# Altium footprint library SN74AUC125RGYR.PcbLib: 1 footprints
Each footprint in its own frame and in the unit in brackets; x right, y up, seen from the top. Pads: shape width x height; smd on the part's side, far side on the other; paste and mask are expansions set on the pad; w line width, h text height; cw(c..) or ccw(c..) is an arc to the next point about the centre after c.
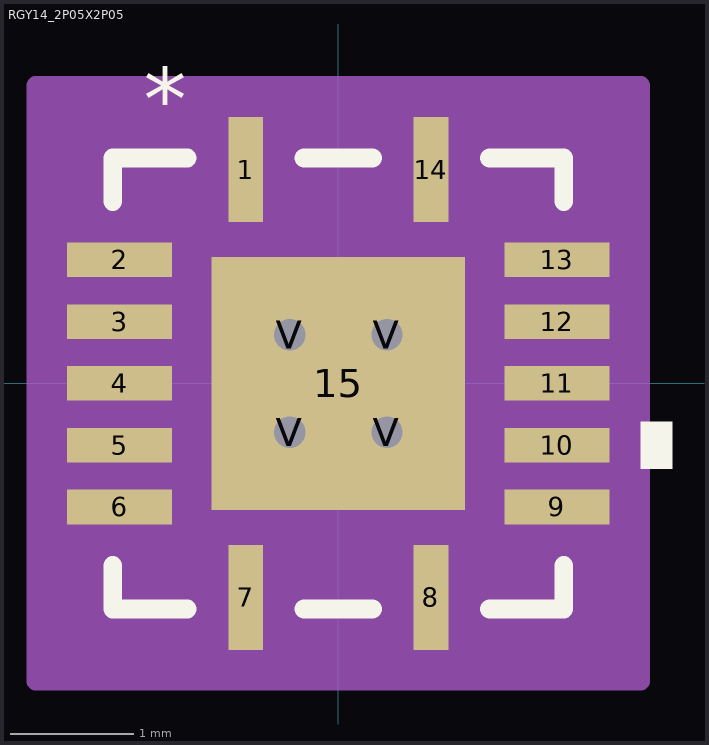
[diagram p0: the footprint, top view; thin cyan lines are the x and y axes]

## RGY14_2P05X2P05 [mm]
pads (19):
  rect 0.28x0.85 smd paste-0.14 mask-0.419: 1(-0.75,1.731) 7(-0.75,-1.731) 8(0.75,-1.731) 14(0.75,1.731)
  rect 0.85x0.28 smd paste-0.14 mask-0.419: 2(-1.769,1) 3(-1.769,0.5) 4(-1.769,0) 5(-1.769,-0.5) 6(-1.769,-1) 9(1.769,-1) 10(1.769,-0.5) 11(1.769,0) 12(1.769,0.5) 13(1.769,1)
  rect 2.05x2.05 smd paste-1.012 mask-1.016: 15(0,0)
  round 0.508 / inner round 1.524 / far side round 0.508 hole 0.254 paste-2539.97 mask-0.254: V(-0.394,-0.394) V(-0.394,0.394) V(0.394,-0.394) V(0.394,0.394)
Top Layer:
  region: 0,-1.025
  region: 0,1.025
Top Overlay:
  region: 2.448,-0.309 2.702,-0.309 2.702,-0.69 2.448,-0.69
  lines w0.152: -1.825,-1.473 -1.825,-1.825 -1.223,-1.825 ; -1.825,1.473 -1.825,1.825 -1.223,1.825 ; -0.277,-1.825 0.277,-1.825 ; -0.277,1.825 0.277,1.825 ; 1.223,-1.825 1.825,-1.825 1.825,-1.473 ; 1.223,1.825 1.825,1.825 1.825,1.473
  text "*" at -1.576,2.054 h0.51
Top Paste:
  drawing of 27 lines, arcs and shapes, not listed
Top Solder:
  region: 0.594,-1.088 0.594,1.088 1.088,1.088 1.088,-1.088
  region: 0.194,-1.088 0.194,1.088 -0.194,1.088 -0.194,-1.088
  region: -1.088,-1.088 -1.088,1.088 -0.594,1.088 -0.594,-1.088
  region: -1.088,-1.088 -1.088,-0.594 1.088,-0.594 1.088,-1.088
  region: -1.088,-0.194 -1.088,0.194 1.088,0.194 1.088,-0.194
  region: -1.088,0.594 -1.088,1.088 1.088,1.088 1.088,0.594
  region: 0,-1.025
  region: 0,1.025
  region: -0.54,2.226 -0.96,2.226 -0.96,1.236 -0.54,1.236
  region: 0.96,2.226 0.54,2.226 0.54,1.236 0.96,1.236
  region: 2.264,1.21 1.274,1.21 1.274,0.79 2.264,0.79
  region: 2.264,0.71 1.274,0.71 1.274,0.29 2.264,0.29
  region: 2.264,0.21 1.274,0.21 1.274,-0.21 2.264,-0.21
  region: 2.264,-0.29 1.274,-0.29 1.274,-0.71 2.264,-0.71
  region: 2.264,-0.79 1.274,-0.79 1.274,-1.21 2.264,-1.21
  region: 0.96,-1.236 0.54,-1.236 0.54,-2.226 0.96,-2.226
  region: -0.54,-1.236 -0.96,-1.236 -0.96,-2.226 -0.54,-2.226
  region: -1.274,-0.79 -2.264,-0.79 -2.264,-1.21 -1.274,-1.21
  region: -1.274,-0.29 -2.264,-0.29 -2.264,-0.71 -1.274,-0.71
  region: -1.274,0.21 -2.264,0.21 -2.264,-0.21 -1.274,-0.21
  region: -1.274,0.71 -2.264,0.71 -2.264,0.29 -1.274,0.29
  region: -1.274,1.21 -2.264,1.21 -2.264,0.79 -1.274,0.79
Mechanical 13:
  lines w0.025: -1.825,0.555 -0.555,1.825 ; -1.825,-1.825 -1.825,1.825 1.825,1.825 1.825,-1.825 -1.825,-1.825
  text "*" at -1.576,2.054 h0.51
Mechanical 15:
  region: 2.448,-2.41 -2.448,-2.41 -2.448,2.41 2.448,2.41
  lines w0.152: -2.448,-2.41 2.448,-2.41 2.448,2.41 -2.448,2.41 -2.448,-2.41
3D body "RGY14_2P05X2P05.step": height 1, standoff 0, extent -1.876,-1.876 1.876,1.876